# Altium footprint library ARC_WIDTHS.PcbLib: 1 footprints
Each footprint in its own frame and in the unit in brackets; x right, y up, seen from the top. Pads: shape width x height; smd on the part's side, far side on the other; paste and mask are expansions set on the pad; w line width, h text height; cw(c..) or ccw(c..) is an arc to the next point about the centre after c.
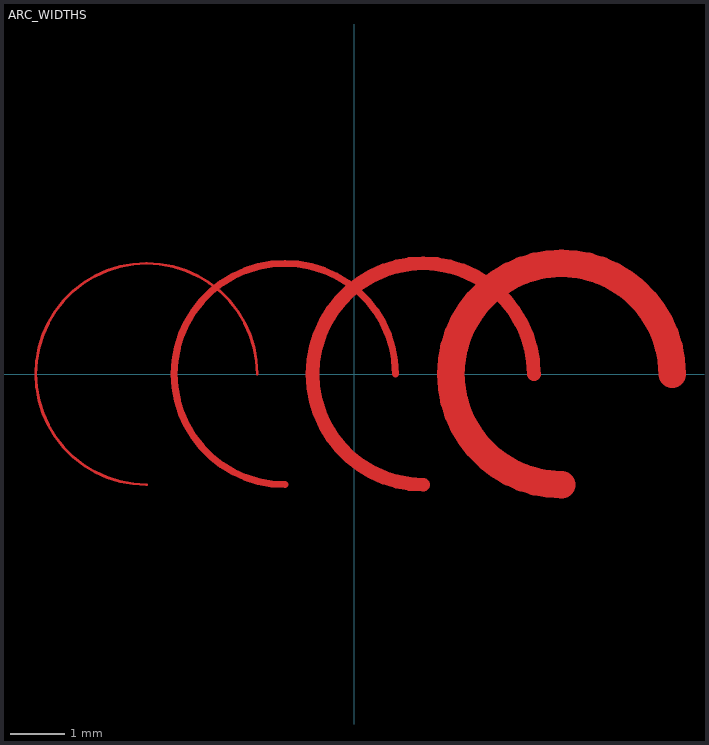
[diagram p0: the footprint, top view; thin cyan lines are the x and y axes]

## ARC_WIDTHS [mm] "Arcs with various line widths"
Top Layer:
  lines w0.051: -3.81,-2.032 cw(c-3.81,0) -1.778,0
  lines w0.127: -1.27,-2.032 cw(c-1.27,0) 0.762,0
  lines w0.254: 1.27,-2.032 cw(c1.27,0) 3.302,0
  lines w0.508: 3.81,-2.032 cw(c3.81,0) 5.842,0